# Altium footprint library TPS259802ONRGER.PcbLib: 1 footprints
Each footprint in its own frame and in the unit in brackets; x right, y up, seen from the top. Pads: shape width x height; smd on the part's side, far side on the other; paste and mask are expansions set on the pad; w line width, h text height; cw(c..) or ccw(c..) is an arc to the next point about the centre after c.
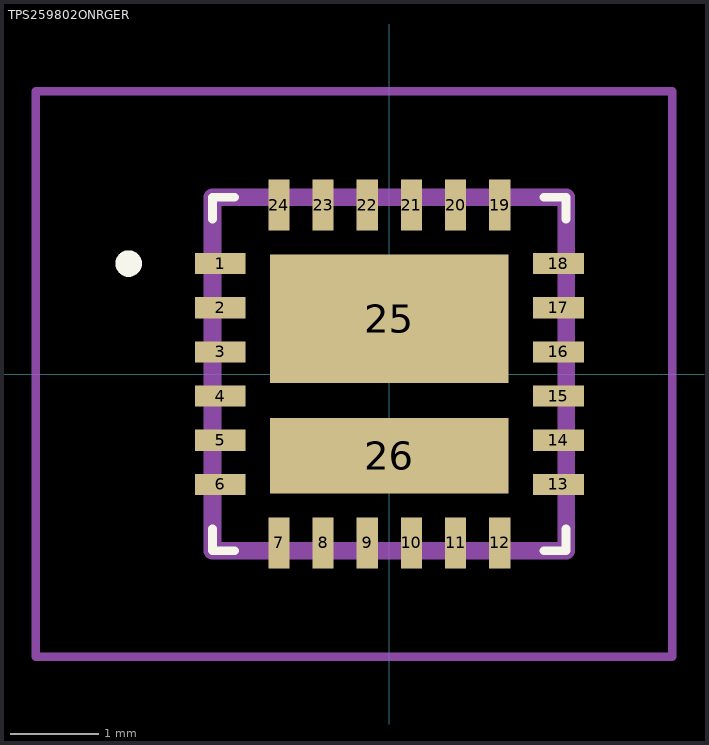
[diagram p0: the footprint, top view; thin cyan lines are the x and y axes]

## TPS259802ONRGER [mm]
pads (26):
  rect 0.575x0.24 smd: 1(-1.913,1.25) 2(-1.913,0.75) 3(-1.913,0.25) 4(-1.913,-0.25) 5(-1.913,-0.75) 6(-1.913,-1.25) 13(1.913,-1.25) 14(1.913,-0.75) 15(1.913,-0.25) 16(1.913,0.25) 17(1.913,0.75) 18(1.913,1.25)
  rect 0.24x0.575 smd: 7(-1.25,-1.912) 8(-0.75,-1.912) 9(-0.25,-1.912) 10(0.25,-1.912) 11(0.75,-1.912) 12(1.25,-1.912) 19(1.25,1.912) 20(0.75,1.912) 21(0.25,1.912) 22(-0.25,1.912) 23(-0.75,1.912) 24(-1.25,1.912)
  rect 2.7x1.45 smd: 25(0,0.625)
  rect 2.7x0.85 smd: 26(0,-0.925)
Top Overlay:
  lines w0.1: -2,-2 -2,-1.75 ; -2,-2 -2,-2 ; -2,-2 -2,-1.75 ; -2,-2 -1.75,-2 ; -2,-2 -1.75,-2 ; -2,-2 -2,-2 ; -2,-1.75 -2,-1.75 ; -2,1.75 -2,1.75 ; -2,1.75 -2,2 ; -2,1.75 -2,2 ; -2,2 -2,2 ; -2,2 -1.75,2 ; -2,2 -1.75,2 ; -2,2 -2,2 ; -1.75,-2 -1.75,-2 ; -1.75,2 -1.75,2 ; 1.75,-2 2,-2 ; 1.75,-2 2,-2 ; 1.75,-2 1.75,-2 ; 1.75,2 2,2 ; 1.75,2 1.75,2 ; 1.75,2 2,2 ; 2,-2 2,-2 ; 2,-2 2,-2 ; 2,-2 2,-1.75 ; 2,-2 2,-1.75 ; 2,-1.75 2,-1.75 ; 2,1.75 2,1.75 ; 2,1.75 2,2 ; 2,1.75 2,2 ; 2,2 2,2 ; 2,2 2,2
  lines w0.2: -3,1.25 -3,1.25 ; -3,1.25 ccw(c-2.95,1.25) -2.9,1.25 ; -3,1.25 cw(c-2.95,1.25) -2.9,1.25 ; -3,1.25 -3,1.25 ; -3,1.25 ccw(c-2.95,1.25) -2.9,1.25 ; -2.9,1.25 -2.9,1.25
Mechanical 15:
  lines w0.2: -2,-2 2,-2 2,2 -2,2 -2,-2
Mechanical 20:
  lines w0.1: -4,-3.2 3.2,-3.2 3.2,3.2 -4,3.2 -4,-3.2